# Altium footprint library GhaniLibrary.PcbLib: 33 footprints (part 2 of 3)
Each footprint in its own frame and in the unit in brackets; x right, y up, seen from the top. Pads: shape width x height; smd on the part's side, far side on the other; paste and mask are expansions set on the pad; w line width, h text height; cw(c..) or ccw(c..) is an arc to the next point about the centre after c.
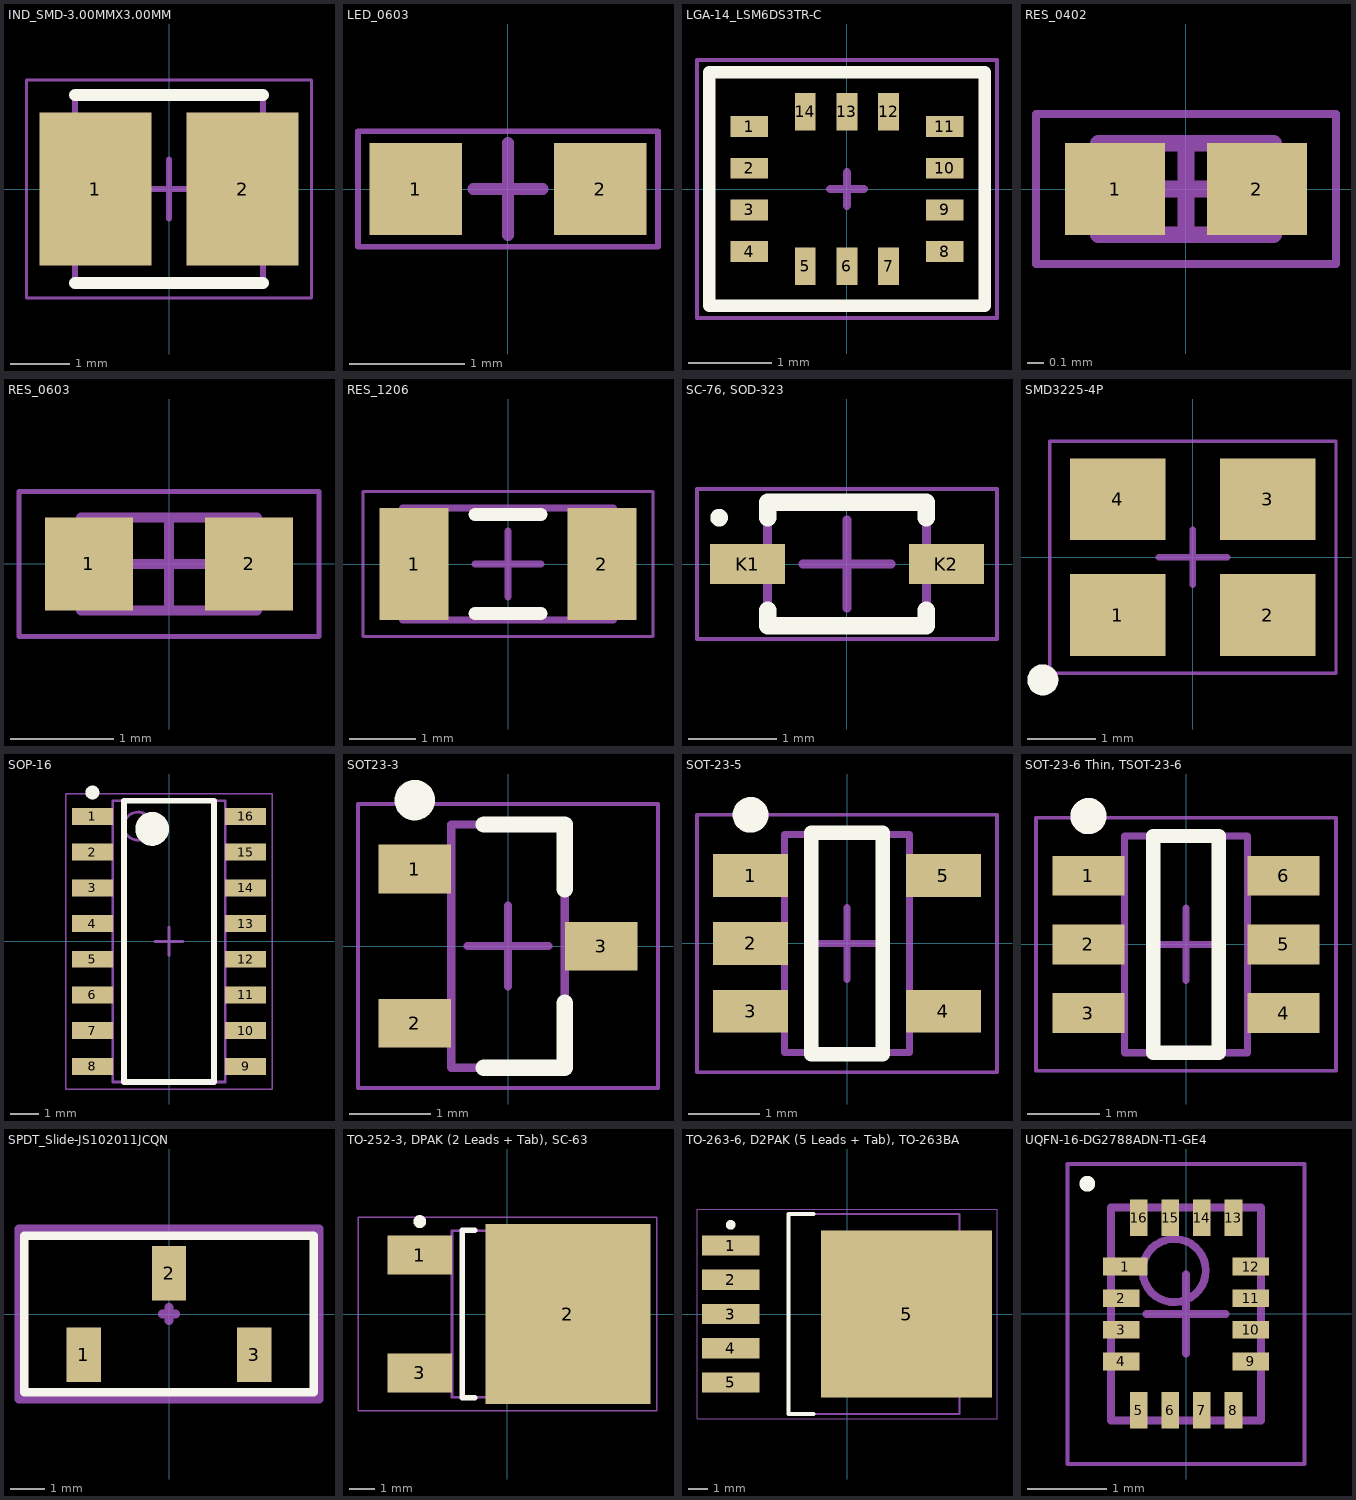
[diagram p1: the footprints below, top view; thin cyan lines are the x and y axes]

## IND_SMD-3.00MMX3.00MM [mm] "Precision Wire Wound Inductor, 2-Leads, Body 3.00x3.00mm, IPC Medium Density"
height 1.2
pads (2):
  rect 1.9x2.6 smd: 1(-1.25,0) 2(1.25,0)
Top Overlay:
  lines w0.2: -1.6,-1.6 1.6,-1.6 ; -1.6,1.6 1.6,1.6
Mechanical 13:
  lines w0.1: -1.6,-1.6 1.6,-1.6 1.6,1.6 -1.6,1.6 -1.6,-1.6
Mechanical 15:
  lines w0.05: -2.425,-1.85 2.425,-1.85 2.425,1.85 -2.425,1.85 -2.425,-1.85
  lines w0.1: -0.5,0 0.5,0 ; 0,-0.5 0,0.5
3D body "IND_SMD-3.00MMX3.00MM.step": height 1.3, standoff 0, extent -1.6,-1.5 1.6,1.5

## LED_0603 [mm]
pads (2):
  rect 0.8x0.8 smd: 1(-0.8,0) 2(0.8,0)
Mechanical 15:
  lines w0.05: -1.3,-0.5 1.3,-0.5 1.3,0.5 -1.3,0.5 -1.3,-0.5
  lines w0.1: -0.3,0 0.3,0 ; 0,-0.4 0,0.4
3D body "LED_0603.stp": height 0.7, standoff 0, extent -0.8,-0.4 0.8,0.4

## LGA-14_LSM6DS3TR-C [mm]
pads (14):
  rect 0.45x0.25 smd: 1(-1.175,0.75) 2(-1.175,0.25) 3(-1.175,-0.25) 4(-1.175,-0.75) 8(1.175,-0.75) 9(1.175,-0.25) 10(1.175,0.25) 11(1.175,0.75)
  rect 0.25x0.45 smd: 5(-0.5,-0.925) 6(0,-0.925) 7(0.5,-0.925) 12(0.5,0.925) 13(0,0.925) 14(-0.5,0.925)
Top Overlay:
  lines w0.15: -1.65,-1.4 1.65,-1.4 1.65,1.4 -1.65,1.4 -1.65,-1.4
Mechanical 15:
  lines w0.05: -1.8,-1.55 1.8,-1.55 1.8,1.55 -1.8,1.55 -1.8,-1.55
  lines w0.1: -0.2,0 0.2,0 ; 0,-0.2 0,0.2
3D body "LSM6DS3TR-C--3DModel.STEP": height 0.97, standoff 0.01, extent -1.5,-1.25 1.5,1.25

## RES_0402 [mm] "Chip Resistor, 2-Leads, Body 1.00x0.50mm, IPC Medium Density"
height 0.4
pads (2):
  rect 0.6x0.55 smd: 1(-0.425,0) 2(0.425,0)
Mechanical 13:
  lines w0.1: -0.525,-0.275 0.525,-0.275 0.525,0.275 -0.525,0.275 -0.525,-0.275
Mechanical 15:
  lines w0.05: -0.9,-0.45 0.9,-0.45 0.9,0.45 -0.9,0.45 -0.9,-0.45
  lines w0.1: -0.275,0 0.275,0 ; 0,-0.275 0,0.275
3D body "RES_0402.step": height 0.4, standoff 0, extent -0.525,-0.275 0.525,0.275

## RES_0603 [mm] "Chip Resistor, 2-Leads, Body 1.60x0.80mm, IPC Medium Density"
height 0.55
pads (2):
  rect 0.85x0.9 smd: 1(-0.775,0) 2(0.775,0)
Mechanical 13:
  lines w0.1: -0.85,-0.45 0.85,-0.45 0.85,0.45 -0.85,0.45 -0.85,-0.45
Mechanical 15:
  lines w0.05: -1.45,-0.7 1.45,-0.7 1.45,0.7 -1.45,0.7 -1.45,-0.7
  lines w0.1: -0.45,0 0.45,0 ; 0,-0.45 0,0.45
3D body "RES_0603.step": height 0.55, standoff 0, extent -0.85,-0.45 0.85,0.45

## RES_1206 [mm] "Chip Resistor, 2-Leads, Body 3.10x1.60mm, IPC Medium Density"
height 0.65
pads (2):
  rect 1.05x1.7 smd: 1(-1.425,0) 2(1.425,0)
Top Overlay:
  lines w0.2: -0.5,-0.75 0.5,-0.75 ; -0.5,0.75 0.5,0.75
Mechanical 13:
  lines w0.1: -1.6,-0.85 1.6,-0.85 1.6,0.85 -1.6,0.85 -1.6,-0.85
Mechanical 15:
  lines w0.05: -2.2,-1.1 2.2,-1.1 2.2,1.1 -2.2,1.1 -2.2,-1.1
  lines w0.1: -0.5,0 0.5,0 ; 0,-0.5 0,0.5
3D body "RES_1206.step": height 0.65, standoff 0, extent -1.6,-0.85 1.6,0.85

## SC-76, SOD-323 [mm] "SODFL, 2-Leads, Body 1.25x2.50mm, IPC Medium Density"
height 1.1
pads (2):
  rect 0.85x0.45 smd: K1(-1.125,0) K2(1.125,0)
Top Overlay:
  circle w0.1: c-1.45,0.525 r0.05
  lines w0.2: -0.9,-0.525 -0.9,-0.7 0.9,-0.7 0.9,-0.525 ; -0.9,0.525 -0.9,0.7 0.9,0.7 0.9,0.525
Mechanical 13:
  lines w0.1: -0.9,-0.675 0.9,-0.675 0.9,0.675 -0.9,0.675 -0.9,-0.675
Mechanical 15:
  lines w0.05: -1.7,-0.85 1.7,-0.85 1.7,0.85 -1.7,0.85 -1.7,-0.85
  lines w0.1: -0.5,0 0.5,0 ; 0,-0.5 0,0.5
3D body "SC-76, SOD-323.step": height 1.1, standoff 0, extent -1.25,-0.675 1.25,0.675

## SMD3225-4P [mm]
pads (4):
  rect 1.4x1.2 smd: 1(-1.1,-0.85) 2(1.1,-0.85) 3(1.1,0.85) 4(-1.1,0.85)
Top Overlay:
  circle w0.254: c-2.2,-1.8 r0.1
Mechanical 15:
  lines w0.05: -2.1,-1.7 2.1,-1.7 2.1,1.7 -2.1,1.7 -2.1,-1.7
  lines w0.1: -0.5,0 0.5,0 ; 0,-0.4 0,0.4
3D body "Crystal_OSC_3.2mmX2.5mm.STEP": height 0.81, standoff 0.01, extent -1.6,-1.25 1.6,1.25

## SOP-16 [mm] "SOP, 16-Leads, Body 9.90x3.90mm, Pitch 1.27mm, IPC Medium Density"
height 1.65
pads (16):
  rect 1.45x0.6 smd: 1(-2.725,4.445) 2(-2.725,3.175) 3(-2.725,1.905) 4(-2.725,0.635) 5(-2.725,-0.635) 6(-2.725,-1.905) 7(-2.725,-3.175) 8(-2.725,-4.445) 9(2.725,-4.445) 10(2.725,-3.175) 11(2.725,-1.905) 12(2.725,-0.635) 13(2.725,0.635) 14(2.725,1.905) 15(2.725,3.175) 16(2.725,4.445)
Top Overlay:
  circle w0.25: c-2.725,5.295 r0.125
  circle w0.6: c-0.6,4 r0.3
  lines w0.2: -1.6,-5 -1.6,5 1.6,5 1.6,-5 -1.6,-5
Mechanical 13:
  circle w0.1: c-1.1,4.1 r0.5
  lines w0.1: -2,-5 -2,5 2,5 2,-5 -2,-5
Mechanical 15:
  lines w0.05: -3.675,-5.25 -3.675,5.25 3.675,5.25 3.675,-5.25 -3.675,-5.25
  lines w0.1: -0.5,0 0.5,0 ; 0,-0.5 0,0.5
3D body "SOP-16.step": height 1.65, standoff 0, extent -3,-5 3,5

## SOT23-3 [mm] "SOT23, 3-Leads, Body 2.90x2.30mm, Pitch 0.95mm, IPC Medium Density"
height 1.1
pads (3):
  rect 0.9x0.6 smd: 1(-1.15,0.95) 2(-1.15,-0.95) 3(1.15,0)
Top Overlay:
  circle w0.25: c-1.15,1.8 r0.125
  lines w0.2: -0.3,-1.5 0.7,-1.5 0.7,-0.7 ; -0.3,1.5 0.7,1.5 0.7,0.7
Mechanical 13:
  lines w0.1: -0.7,-1.5 0.7,-1.5 0.7,1.5 -0.7,1.5 -0.7,-1.5
Mechanical 15:
  lines w0.05: -1.85,-1.75 1.85,-1.75 1.85,1.75 -1.85,1.75 -1.85,-1.75
  lines w0.1: -0.5,0 0.5,0 ; 0,-0.5 0,0.5
3D body "SOT23-3.step": height 1.1, standoff 0, extent -1.3,-1.5 1.3,1.5

## SOT-23-5 [mm] "SOT23, 5-Leads, Body 2.90x2.80mm, Pitch 0.95mm, IPC Medium Density"
height 1.45
pads (5):
  rect 1.05x0.6 smd: 1(-1.35,0.95) 2(-1.35,0) 3(-1.35,-0.95) 4(1.35,-0.95) 5(1.35,0.95)
Top Overlay:
  circle w0.25: c-1.35,1.8 r0.125
  lines w0.2: -0.5,-1.55 0.5,-1.55 0.5,1.55 -0.5,1.55 -0.5,-1.55
Mechanical 13:
  lines w0.1: -0.875,-1.525 -0.875,1.525 0.875,1.525 0.875,-1.525 -0.875,-1.525
Mechanical 15:
  lines w0.05: -2.1,-1.8 -2.1,1.8 2.1,1.8 2.1,-1.8 -2.1,-1.8
  lines w0.1: -0.5,0 0.5,0 ; 0,-0.5 0,0.5
3D body "SOT-23-5.step": height 1.45, standoff 0, extent -1.5,-1.525 1.5,1.525

## SOT-23-6 Thin, TSOT-23-6 [mm] "SOT23, 6-Leads, Body 2.90x2.80mm, Pitch 0.95mm, IPC Medium Density"
height 1
pads (6):
  rect 1x0.55 smd: 1(-1.35,0.95) 2(-1.35,0) 3(-1.35,-0.95) 4(1.35,-0.95) 5(1.35,0) 6(1.35,0.95)
Top Overlay:
  circle w0.25: c-1.35,1.775 r0.125
  lines w0.2: -0.45,-1.5 -0.45,1.5 0.45,1.5 0.45,-1.5 -0.45,-1.5
Mechanical 13:
  lines w0.1: -0.85,-1.5 0.85,-1.5 0.85,1.5 -0.85,1.5 -0.85,-1.5
Mechanical 15:
  lines w0.05: -2.075,-1.75 2.075,-1.75 2.075,1.75 -2.075,1.75 -2.075,-1.75
  lines w0.1: -0.5,0 0.5,0 ; 0,-0.5 0,0.5
3D body "SOT-23-6 Thin, TSOT-23-6.step": height 1, standoff 0, extent -1.4,-1.5 1.4,1.5

## SPDT_Slide-JS102011JCQN [mm]
pads (3):
  rect 1x1.6 smd: 1(-2.5,-1.2) 2(0,1.2) 3(2.5,-1.2)
Top Overlay:
  lines w0.254: -4.25,-2.3 4.25,-2.3 4.25,2.3 -4.25,2.3 -4.25,-2.3
Mechanical 15:
  lines w0.254: -0.2,0 0.2,0 ; 0,-0.2 0,0.2 ; -4.4,-2.5 4.4,-2.5 4.4,2.5 -4.4,2.5 -4.4,-2.5
3D body "JS102011JCQN.step": height 5.41, standoff 0.01, extent -4.25,-2 4.25,2

## TO-252-3, DPAK (2 Leads + Tab), SC-63 [mm] "D-PAK, 3-Pads (2 Leads + Tab), IPC Medium Density"
height 2.39
pads (3):
  rect 2.5x1.5 smd: 1(-3.4,2.29) 3(-3.4,-2.29)
  rect 6.4x7 smd: 2(2.35,0)
Top Overlay:
  circle w0.25: c-3.4,3.59 r0.125
  lines w0.2: -1.25,-3.25 -1.75,-3.25 -1.75,3.25 -1.25,3.25
Mechanical 13:
  lines w0.1: -2.15,-3.225 -2.15,3.225 4.05,3.225 4.05,-3.225 -2.15,-3.225
Mechanical 15:
  lines w0.05: -5.8,-3.75 -5.8,3.75 5.8,3.75 5.8,-3.75 -5.8,-3.75
  lines w0.1: -0.5,0 0.5,0 ; 0,-0.5 0,0.5
3D body "TO-252-3, DPAK (2 Leads + Tab), SC-63.step": height 2.52, standoff 0, extent -3.91,-3.225 5.99,3.225

## TO-263-6, D2PAK (5 Leads + Tab), TO-263BA [mm] "D2-PAK, 6-Pads (5 Leads + Tab), Body 7.55x8.56mm (max), IPC Medium Density"
height 4.7
pads (6):
  rect 3x1.05 smd: 1(-6.05,3.56) 2(-6.05,1.78) 3(-6.05,0) 4(-6.05,-1.78) 5(-6.05,-3.56)
  rect 8.9x8.7 smd: 5(3.1,0)
Top Overlay:
  circle w0.25: c-6.05,4.635 r0.125
  lines w0.2: -1.75,-5.2 -3.05,-5.2 -3.05,5.2 -1.75,5.2
Mechanical 13:
  lines w0.1: -3.05,-5.2 -3.05,5.2 5.84,5.2 5.84,-5.2 -3.05,-5.2
Mechanical 15:
  lines w0.05: -7.8,-5.45 -7.8,5.45 7.8,5.45 7.8,-5.45 -7.8,-5.45
  lines w0.1: -0.5,0 0.5,0 ; 0,-0.5 0,0.5
3D body "TO-263-6, D2PAK (5 Leads + Tab), TO-263BA.step": height 6.02, standoff 0, extent -6.65,-5.2 7.525,5.2

## UQFN-16-DG2788ADN-T1-GE4 [mm] "QFN, 16-Leads, Body 1.80x2.60mm, Pitch 0.40mm, IPC Medium Density"
height 0.6
pads (16):
  rect 0.562x0.225 smd: 1(-0.77,0.6)
  rect 0.463x0.225 smd: 2(-0.818,0.2) 3(-0.818,-0.2) 4(-0.818,-0.6) 9(0.818,-0.6) 10(0.818,-0.2) 11(0.818,0.2) 12(0.818,0.6)
  rect 0.225x0.463 smd: 5(-0.6,-1.219) 6(-0.2,-1.219) 7(0.2,-1.219) 8(0.6,-1.219) 13(0.6,1.218) 14(0.2,1.218) 15(-0.2,1.218) 16(-0.6,1.218)
Top Overlay:
  circle w0.1: c-1.25,1.65 r0.05
Mechanical 13:
  circle w0.1: c-0.15,0.55 r0.4
  lines w0.1: -0.95,-1.35 0.95,-1.35 0.95,1.35 -0.95,1.35 -0.95,-1.35
Mechanical 15:
  lines w0.05: -1.5,-1.9 1.5,-1.9 1.5,1.9 -1.5,1.9 -1.5,-1.9
  lines w0.1: -0.5,0 0.5,0 ; 0,-0.5 0,0.5
3D body "UQFN-16-DG2788ADN-T1-GE4.step": height 0.6, standoff 0, extent -1,-1.4 1,1.4